# Altium schematic symbol library Propeller.SchLib: 4 symbols
Pins are listed as number, name and electrical type; pins without a type are passive.

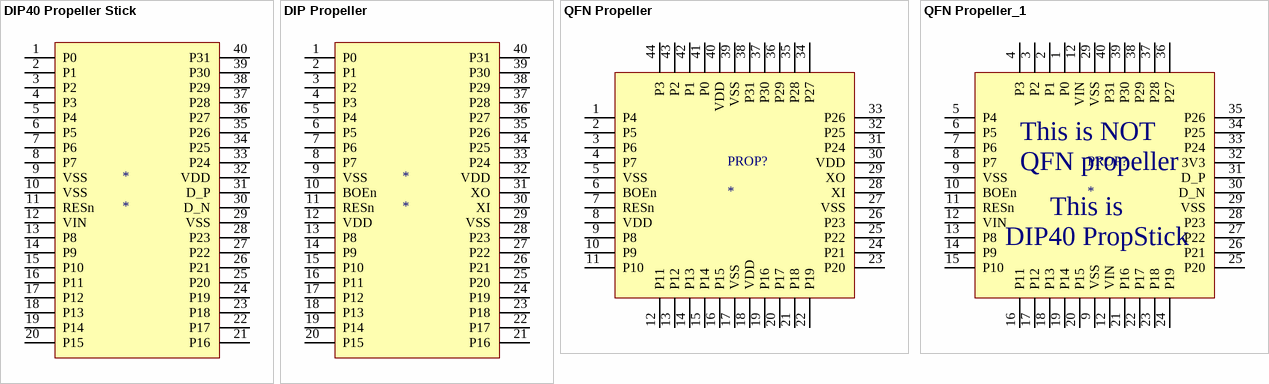
[diagram p0: symbols DIP40 Propeller Stick to QFN Propeller_1]

## DIP40 Propeller Stick
designator *
footprint DIP40 (DIP 40 Socket)
footprint PropStickDIP40 (Propeller Stick to DIP 40 socket)
pins: 1 P0, 2 P1, 3 P2, 4 P3, 5 P4, 6 P5, 7 P6, 8 P7, 9 VSS, 10 VSS, 11 RESn, 12 VIN, 13 P8, 14 P9, 15 P10, 16 P11, 17 P12, 18 P13, 19 P14, 20 P15, 21 P16, 22 P17, 23 P18, 24 P19, 25 P20, 26 P21, 27 P22, 28 P23, 29 VSS, 30 D_N, 31 D_P, 32 VDD, 33 P24, 34 P25, 35 P26, 36 P27, 37 P28, 38 P29, 39 P30, 40 P31

## DIP Propeller
designator *
footprint DIP40 (DIP 40 Socket)
footprint PropStickDIP40 (Propeller Stick lead going to DIP 40 socket)
pins: 1 P0, 2 P1, 3 P2, 4 P3, 5 P4, 6 P5, 7 P6, 8 P7, 9 VSS, 10 BOEn, 11 RESn, 12 VDD, 13 P8, 14 P9, 15 P10, 16 P11, 17 P12, 18 P13, 19 P14, 20 P15, 21 P16, 22 P17, 23 P18, 24 P19, 25 P20, 26 P21, 27 P22, 28 P23, 29 VSS, 30 XI, 31 XO, 32 VDD, 33 P24, 34 P25, 35 P26, 36 P27, 37 P28, 38 P29, 39 P30, 40 P31

## QFN Propeller
designator PROP?
footprint Q44 (44-pin LQFP)
pins: 1 P4, 2 P5, 3 P6, 4 P7, 5 VSS, 6 BOEn, 7 RESn, 8 VDD, 9 P8, 10 P9, 11 P10, 12 P11, 13 P12, 14 P13, 15 P14, 16 P15, 17 VSS, 18 VDD, 19 P16, 20 P17, 21 P18, 22 P19, 23 P20, 24 P21, 25 P22, 26 P23, 27 VSS, 28 XI, 29 XO, 30 VDD, 31 P24, 32 P25, 33 P26, 34 P27, 35 P28, 36 P29, 37 P30, 38 P31, 39 VSS, 40 VDD, 41 P0, 42 P1, 43 P2, 44 P3

## QFN Propeller_1
designator PROP?
footprint PropStickDIP40 (Propeller Stick to DIP 40 socket)
pins: 1 P0, 2 P1, 3 P2, 4 P3, 5 P4, 6 P5, 7 P6, 8 P7, 9 VSS, 9 VSS, 10 BOEn, 11 RESn, 12 VIN, 12 VIN, 12 VIN, 13 P8, 14 P9, 15 P10, 16 P11, 17 P12, 18 P13, 19 P14, 20 P15, 21 P16, 22 P17, 23 P18, 24 P19, 25 P20, 26 P21, 27 P22, 28 P23, 29 VSS, 29 VSS, 30 D_N, 31 D_P, 32 3V3, 33 P24, 34 P25, 35 P26, 36 P27, 37 P28, 38 P29, 39 P30, 40 P31
text: This is NOT; QFN propeller; This is; DIP40 PropStick